# Altium schematic symbol library CN HDR 40POS.SchLib: 1 symbol
Pins are listed as number, name and electrical type; pins without a type are passive.

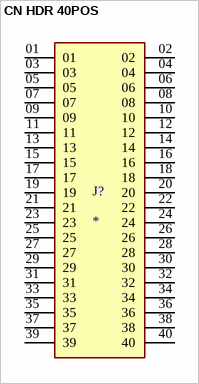
[diagram p0: symbol CN HDR 40POS]

## CN HDR 40POS
designator J?
40 Position Header Connector
footprint CN HDR 40POS 0.1 TH (40 Position Header Connector 0.100" (2.54mm) Through Hole)
pins: 01, 02, 03, 04, 05, 06, 07, 08, 09, 10, 11, 12, 13, 14, 15, 16, 17, 18, 19, 20, 21, 22, 23, 24, 25, 26, 27, 28, 29, 30, 31, 32, 33, 34, 35, 36, 37, 38, 39, 40